# EAGLE library part BUCK2A (library buck 2a)
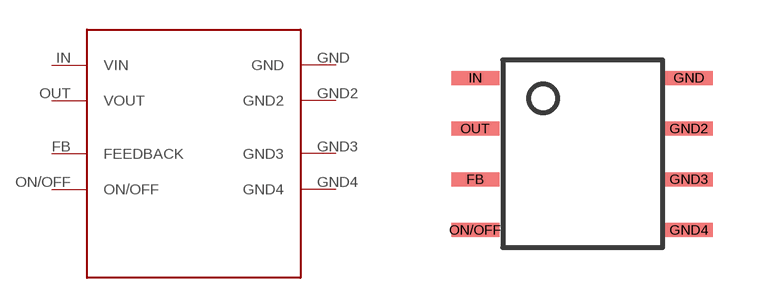
[diagram p0: symbol with the pads of BUCK2A; footprint BUCK2A]

Designator prefix -

## BUCK2A  [BUCK2A]
FB  FEEDBACK
GND  GND
GND2  GND2
GND3  GND3
GND4  GND4
IN  VIN
ON/OFF  ON/OFF
OUT  VOUT

## Footprint BUCK2A (pad centres in mm)
smd 1.2 x 0.35: FB 0,1.27; GND 5.35,3.81; GND2 5.35,2.54; GND3 5.35,1.27; GND4 5.35,0; IN 0,3.81; ON/OFF 0,0; OUT 0,2.54